# Altium schematic symbol library MMBD1503A.SchLib: 1 symbol
Pins are listed as number, name and electrical type; pins without a type are passive.

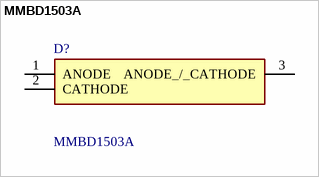
[diagram p0: symbol MMBD1503A]

## MMBD1503A
designator D?
High Conductance Low Leakage Diode; Manufacturer_Name: onsemi; Geometry.Height: 1.2mm; Manufacturer_Part_Number: MMBD1503A; Mouser Part Number: 512-MMBD1503A; Mouser Price/Stock: https://www.mouser.co.uk/ProductDetail/ON-Semiconductor-Fairchild/MMBD1503A?qs=7oZ3HZRjbRmGCcKCTuDPOA%3D%3D; Arrow Part Number: MMBD1503A; Arrow Price/Stock: https://www.arrow.com/en/products/mmbd1503a/on-semiconductor; Datasheet Link: http://www.onsemi.com/pub/Collateral/MMBD1501-D.pdf
footprint SOT95P240X120-3N
pins: 1 ANODE, 2 CATHODE, 3 ANODE_/_CATHODE